# EAGLE library part CON-EDGE-F-06X2 (library untitled)
Female 6x2 Edge connector
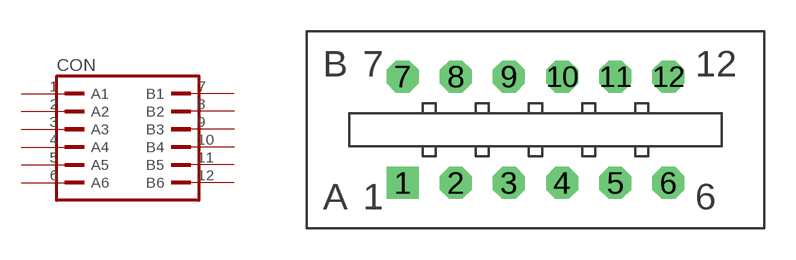
[diagram p0: symbol with the pads of EDGE_CONNECTOR_6X2; footprint EDGE_CONNECTOR_6X2]

Designator prefix CON

## CON-EDGE-F-06X2  [EDGE_CONNECTOR_6X2]
1  A1  pas
2  A2  pas
3  A3  pas
4  A4  pas
5  A5  pas
6  A6  pas
7  B1  pas
8  B2  pas
9  B3  pas
10  B4  pas
11  B5  pas
12  B6  pas

## Footprint EDGE_CONNECTOR_6X2 (pad centres in mm)
0.100 x 0.200 inch pitch Edge Connector with no mounting ear
drill 1.02 square: 1 -6.35,-2.54
drill 1.02 octagon: 2 -3.81,-2.54; 3 -1.27,-2.54; 4 1.27,-2.54; 5 3.81,-2.54; 6 6.35,-2.54; 7 -6.35,2.54; 8 -3.81,2.54; 9 -1.27,2.54; 10 1.27,2.54; 11 3.81,2.54; 12 6.35,2.54